# EAGLE library part ADE9153A_BASE (library ADE9153A_base)
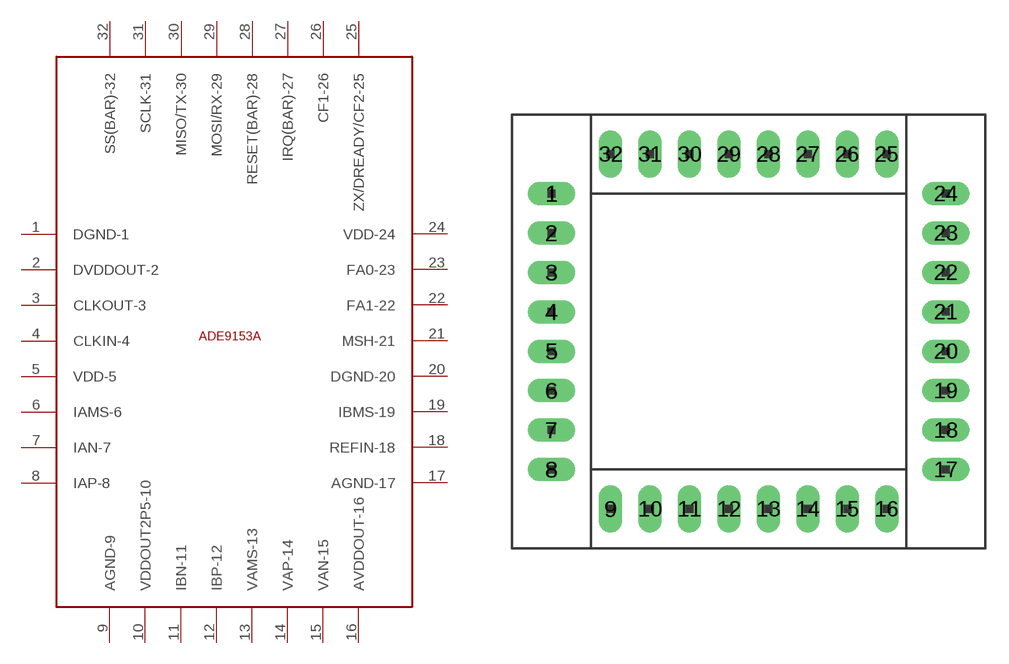
[diagram p0: symbol with the pads of ADE9153A_BASE; footprint ADE9153A_BASE]

Designator prefix -

## ADE9153A_BASEADE9153A_BASE  [ADE9153A_BASE]
1  DGND-1
2  DVDDOUT-2
3  CLKOUT-3
4  CLKIN-4
5  VDD-5
6  IAMS-6
7  IAN-7
8  IAP-8
9  AGND-9
10  VDDOUT2P5-10
11  IBN-11
12  IBP-12
13  VAMS-13
14  VAP-14
15  VAN-15
16  AVDDOUT-16
17  AGND-17
18  REFIN-18
19  IBMS-19
20  DGND-20
21  MSH-21
22  FA1-22
23  FA0-23
24  VDD-24
25  ZX/DREADY/CF2-25
26  CF1-26
27  IRQ(BAR)-27
28  RESET(BAR)-28
29  MOSI/RX-29
30  MISO/TX-30
31  SCLK-31
32  SS(BAR)-32

## Footprint ADE9153A_BASE (pad centres in mm)
drill 1.016 long: 1 -6.35,-5.08; 2 -6.35,-7.62; 3 -6.35,-10.16; 4 -6.35,-12.7; 5 -6.35,-15.24; 6 -6.35,-17.78; 7 -6.35,-20.32; 8 -6.35,-22.86; 9 -2.54,-25.4; 10 0,-25.4; 11 2.54,-25.4; 12 5.08,-25.4; 13 7.62,-25.4; 14 10.16,-25.4; 15 12.7,-25.4; 16 15.24,-25.4; 17 19.05,-22.86; 18 19.05,-20.32; 19 19.05,-17.78; 20 19.05,-15.24; 21 19.05,-12.7; 22 19.05,-10.16; 23 19.05,-7.62; 24 19.05,-5.08; 25 15.24,-2.54; 26 12.7,-2.54; 27 10.16,-2.54; 28 7.62,-2.54; 29 5.08,-2.54; 30 2.54,-2.54; 31 0,-2.54; 32 -2.54,-2.54